# Altium footprint library NON-PCB.PCBLIB: 33 footprints (part 3 of 3)
Each footprint in its own frame and in the unit in brackets; x right, y up, seen from the top. Pads: shape width x height; smd on the part's side, far side on the other; paste and mask are expansions set on the pad; w line width, h text height; cw(c..) or ccw(c..) is an arc to the next point about the centre after c.
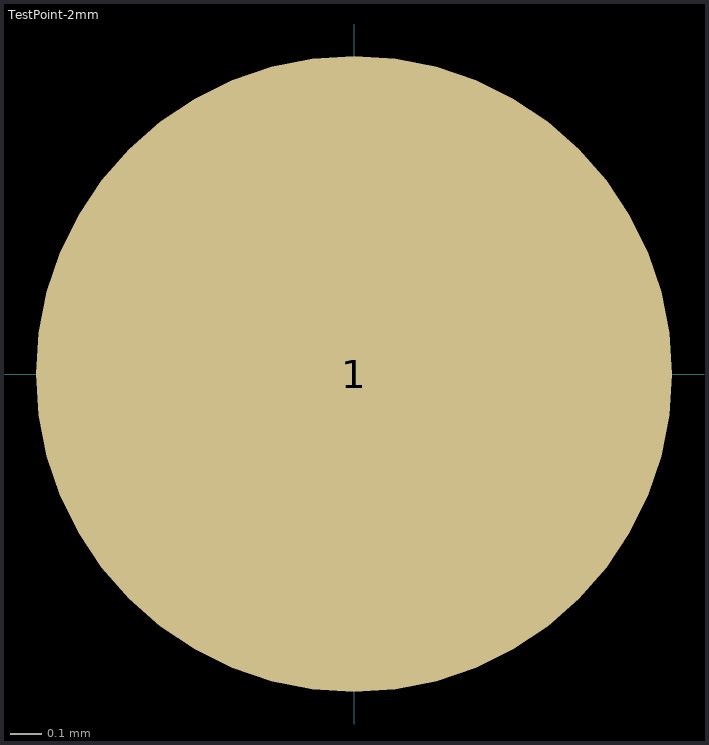
[diagram p2: the footprint, top view; thin cyan lines are the x and y axes]

## TestPoint-2mm [mm]
pads (1):
  round 2 smd: 1(0,0)
3D body: height 0.1, standoff 0, extent -1,-1 1,1